# Altium schematic symbol library ANT.SCHLIB: 2 symbols
Pins are listed as number, name and electrical type; pins without a type are passive.

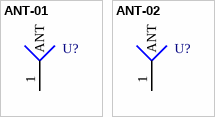
[diagram p0: symbols ANT-01 to ANT-02]

## ANT-01
designator U?  (value not drawn)
PCB DECAL: ANT-01
footprint ANT_GSM
pins: 1 ANT

## ANT-02
designator U?  (value not drawn)
PCB DECAL: ANT-02
footprint ant-02 (Footprint not found)
pins: 1 ANT